# Altium footprint library PCB - LEADLESS - DFN - onsemi DFNW 5x6 CASE-507BD.PcbLib: 1 footprints
Each footprint in its own frame and in the unit in brackets; x right, y up, seen from the top. Pads: shape width x height; smd on the part's side, far side on the other; paste and mask are expansions set on the pad; w line width, h text height; cw(c..) or ccw(c..) is an arc to the next point about the centre after c.
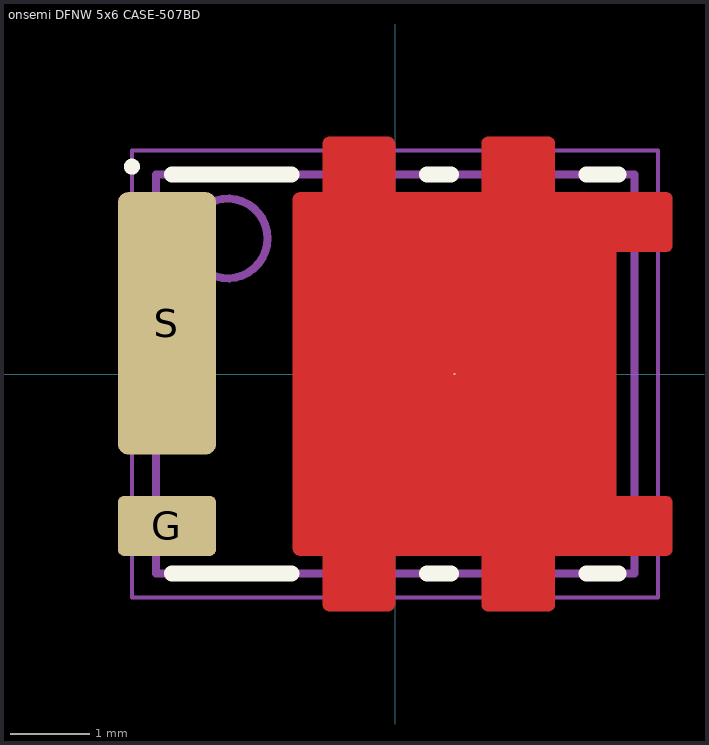
[diagram p0: the footprint, top view; thin cyan lines are the x and y axes]

## onsemi DFNW 5x6 CASE-507BD [mm] "DFN, 8-Leads, Body 5.00x6.00mm, Pitch 1.27mm"
height 1.1
pads (3):
  round 0.025 smd: D(0.745,0)
  rrect20% 1.23x0.75 smd: G(-2.86,-1.905)
  rrect20% 1.23x3.29 smd: S(-2.86,0.635)
Top Layer:
  region: -1.285,-2.178 -1.285,-2.199 -1.27,-2.236 -1.241,-2.265 -1.204,-2.28 -1.184,-2.28 -0.91,-2.28 -0.91,-2.884 -0.91,-2.902 -0.896,-2.936 -0.871,-2.961 -0.837,-2.975 -0.819,-2.975 -0.091,-2.975 -0.073,-2.975 -0.039,-2.961 -0.014,-2.936 0,-2.902 0,-2.884 0,-2.28 1.09,-2.28 1.09,-2.9 1.09,-2.915 1.101,-2.942 1.123,-2.964 1.15,-2.975 1.165,-2.975 1.925,-2.975 1.94,-2.975 1.967,-2.964 1.989,-2.942 2,-2.915 2,-2.9 2,-2.28 3.4,-2.28 3.415,-2.28 3.442,-2.269 3.464,-2.247 3.475,-2.22 3.475,-2.205 3.475,-1.605 3.475,-1.59 3.464,-1.563 3.442,-1.541 3.415,-1.53 3.4,-1.53 2.775,-1.53 2.775,1.53 3.4,1.53 3.415,1.53 3.442,1.541 3.464,1.563 3.475,1.59 3.475,1.605 3.475,2.205 3.475,2.22 3.464,2.247 3.442,2.269 3.415,2.28 3.4,2.28 2,2.28 2,2.9 2,2.915 1.989,2.942 1.967,2.964 1.94,2.975 1.925,2.975 1.165,2.975 1.15,2.975 1.123,2.964 1.101,2.942 1.09,2.915 1.09,2.9 1.09,2.28 0,2.28 0,2.884 0,2.902 -0.014,2.936 -0.039,2.961 -0.073,2.975 -0.091,2.975 -0.819,2.975 -0.837,2.975 -0.871,2.961 -0.896,2.936 -0.91,2.902 -0.91,2.884 -0.91,2.28 -1.184,2.28 -1.204,2.28 -1.241,2.265 -1.27,2.236 -1.285,2.199 -1.285,2.178
Top Overlay:
  circle w0.1: c-3.3,2.6 r0.05
  lines w0.2: -2.8,-2.5 -1.3,-2.5 ; -2.8,2.5 -1.3,2.5 ; 0.4,-2.5 0.7,-2.5 ; 0.4,2.5 0.7,2.5 ; 2.4,-2.5 2.8,-2.5 ; 2.4,2.5 2.8,2.5
Mechanical 13:
  circle w0.1: c-2.1,1.7 r0.5
  lines w0.1: -3,-2.5 3,-2.5 3,2.5 -3,2.5 -3,-2.5
Mechanical 15:
  lines w0.05: -3.3,-2.8 -3.3,2.8 3.3,2.8 3.3,-2.8 -3.3,-2.8
  lines w0.1: -0.5,0 0.5,0 ; 0,-0.5 0,0.5
3D body "onsemi DFNW5 5x6 CASE 507BD.step": height 1.1, standoff -0.01, extent -3.075,-2.575 3.075,2.575